# EAGLE library part ATSAMW25 (library we-chip)
Microchip ATSAMW25 ARM Cortex-M0 + WiFi/WLAN MR210PB - WINC1500 + SAM D21 (PCB antenna) MR510PB - WINC1500 + SAM D21 + ATECC508 (PCB antenna) MR210UB - WINC1500 + SAM D21 (uFL connector) MR510UB - WINC1500 + SAM D21 + ATECC508 (uFL connector)
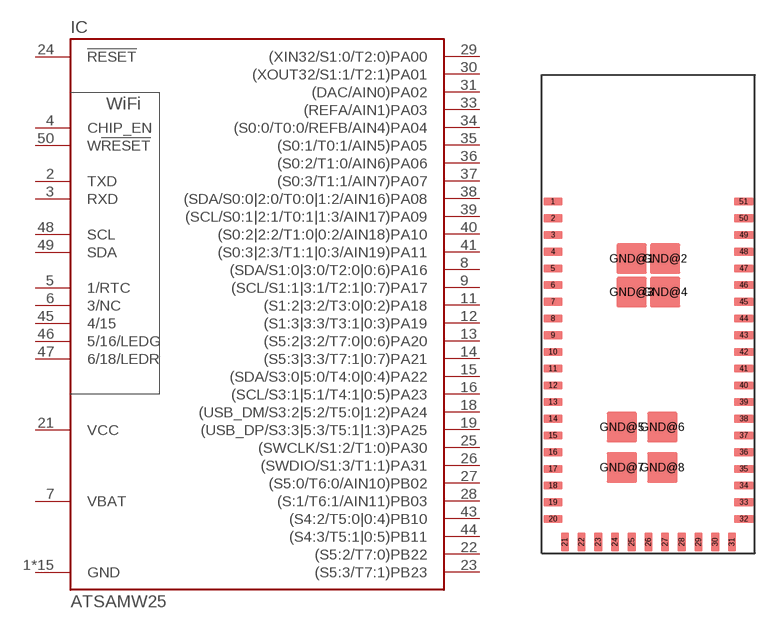
[diagram p37: symbol with the pads of ATSAMW25-MRX10; footprint ATSAMW25-MRX10]

Designator prefix IC

## ATSAMW25-MR510PB  [ATSAMW25-MRX10]
1  GND  pwr
2  TXD  out
3  RXD  in
4  CHIP_EN  in
5  1/RTC
6  3/NC
7  VBAT  pwr
8  (SDA/S1:0|3:0/T2:0|0:6)PA16
9  (SCL/S1:1|3:1/T2:1|0:7)PA17
10  GND  pwr
11  (S1:2|3:2/T3:0|0:2)PA18
12  (S1:3|3:3/T3:1|0:3)PA19
13  (S5:2|3:2/T7:0|0:6)PA20
14  (S5:3|3:3/T7:1|0:7)PA21
15  (SDA/S3:0|5:0/T4:0|0:4)PA22
16  (SCL/S3:1|5:1/T4:1|0:5)PA23
17  GND  pwr
18  (USB_DM/S3:2|5:2/T5:0|1:2)PA24
19  (USB_DP/S3:3|5:3/T5:1|1:3)PA25
20  GND  pwr
21  VCC  pwr
22  (S5:2/T7:0)PB22
23  (S5:3/T7:1)PB23
24  !RESET  in
25  (SWCLK/S1:2/T1:0)PA30
26  (SWDIO/S1:3/T1:1)PA31
27  (S5:0/T6:0/AIN10)PB02
28  (S:1/T6:1/AIN11)PB03
29  (XIN32/S1:0/T2:0)PA00
30  (XOUT32/S1:1/T2:1)PA01
31  (DAC/AIN0)PA02
32  GND  pwr
33  (REFA/AIN1)PA03
34  (S0:0/T0:0/REFB/AIN4)PA04
35  (S0:1/T0:1/AIN5)PA05
36  (S0:2/T1:0/AIN6)PA06
37  (S0:3/T1:1/AIN7)PA07
38  (SDA/S0:0|2:0/T0:0|1:2/AIN16)PA08
39  (SCL/S0:1|2:1/T0:1|1:3/AIN17)PA09
40  (S0:2|2:2/T1:0|0:2/AIN18)PA10
41  (S0:3|2:3/T1:1|0:3/AIN19)PA11
42  GND  pwr
43  (S4:2/T5:0|0:4)PB10
44  (S4:3/T5:1|0:5)PB11
45  4/15
46  5/16/LEDG
47  6/18/LEDR
48  SCL
49  SDA
50  W!RESET  in
51  GND  pwr
GND@1  GND  pwr
GND@2  GND  pwr
GND@3  GND  pwr
GND@4  GND  pwr
GND@5  GND  pwr
GND@6  GND  pwr
GND@7  GND  pwr
GND@8  GND  pwr

## ATSAMW25-MR510UB  [ATSAMW25-MRX10]
Pads as for ATSAMW25-MRX10

## Footprint ATSAMW25-MRX10 (pad centres in mm)
smd 1.4 x 0.6: 1 -6.85,11.4; 2 -6.85,10.2; 3 -6.85,9; 4 -6.85,7.8; 5 -6.85,6.6; 6 -6.85,5.4; 7 -6.85,4.2; 8 -6.85,3; 9 -6.85,1.8; 10 -6.85,0.6; 11 -6.85,-0.6; 12 -6.85,-1.8; 13 -6.85,-3; 14 -6.85,-4.2; 15 -6.85,-5.4; 16 -6.85,-6.6; 17 -6.85,-7.8; 18 -6.85,-9; 19 -6.85,-10.2; 20 -6.85,-11.4; 32 6.85,-11.4; 33 6.85,-10.2; 34 6.85,-9; 35 6.85,-7.8; 36 6.85,-6.6; 37 6.85,-5.4; 38 6.85,-4.2; 39 6.85,-3; 40 6.85,-1.8; 41 6.85,-0.6; 42 6.85,0.6; 43 6.85,1.8; 44 6.85,3; 45 6.85,4.2; 46 6.85,5.4; 47 6.85,6.6; 48 6.85,7.8; 49 6.85,9; 50 6.85,10.2; 51 6.85,11.4
smd 0.6 x 1.4: 21 -6,-13.05; 22 -4.8,-13.05; 23 -3.6,-13.05; 24 -2.4,-13.05; 25 -1.2,-13.05; 26 0,-13.05; 27 1.2,-13.05; 28 2.4,-13.05; 29 3.6,-13.05; 30 4.8,-13.05; 31 6,-13.05
smd 2.2 x 2.2: GND@1 -1.2,7.3; GND@2 1.2,7.3; GND@3 -1.2,4.9; GND@4 1.2,4.9; GND@5 -1.9,-4.8; GND@6 1,-4.8; GND@7 -1.9,-7.7; GND@8 1,-7.7